# Altium schematic symbol library R.Schlib: 1 symbol
Pins are listed as number, name and electrical type; pins without a type are passive.

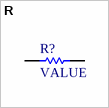
[diagram p0: symbol R]

## R
designator R?
Resistor; Value: VALUE
pins: 1, 2